# Altium schematic symbol library yu0316-NSC_LDO.SchLib: 2590 symbols (part 55 of 64)
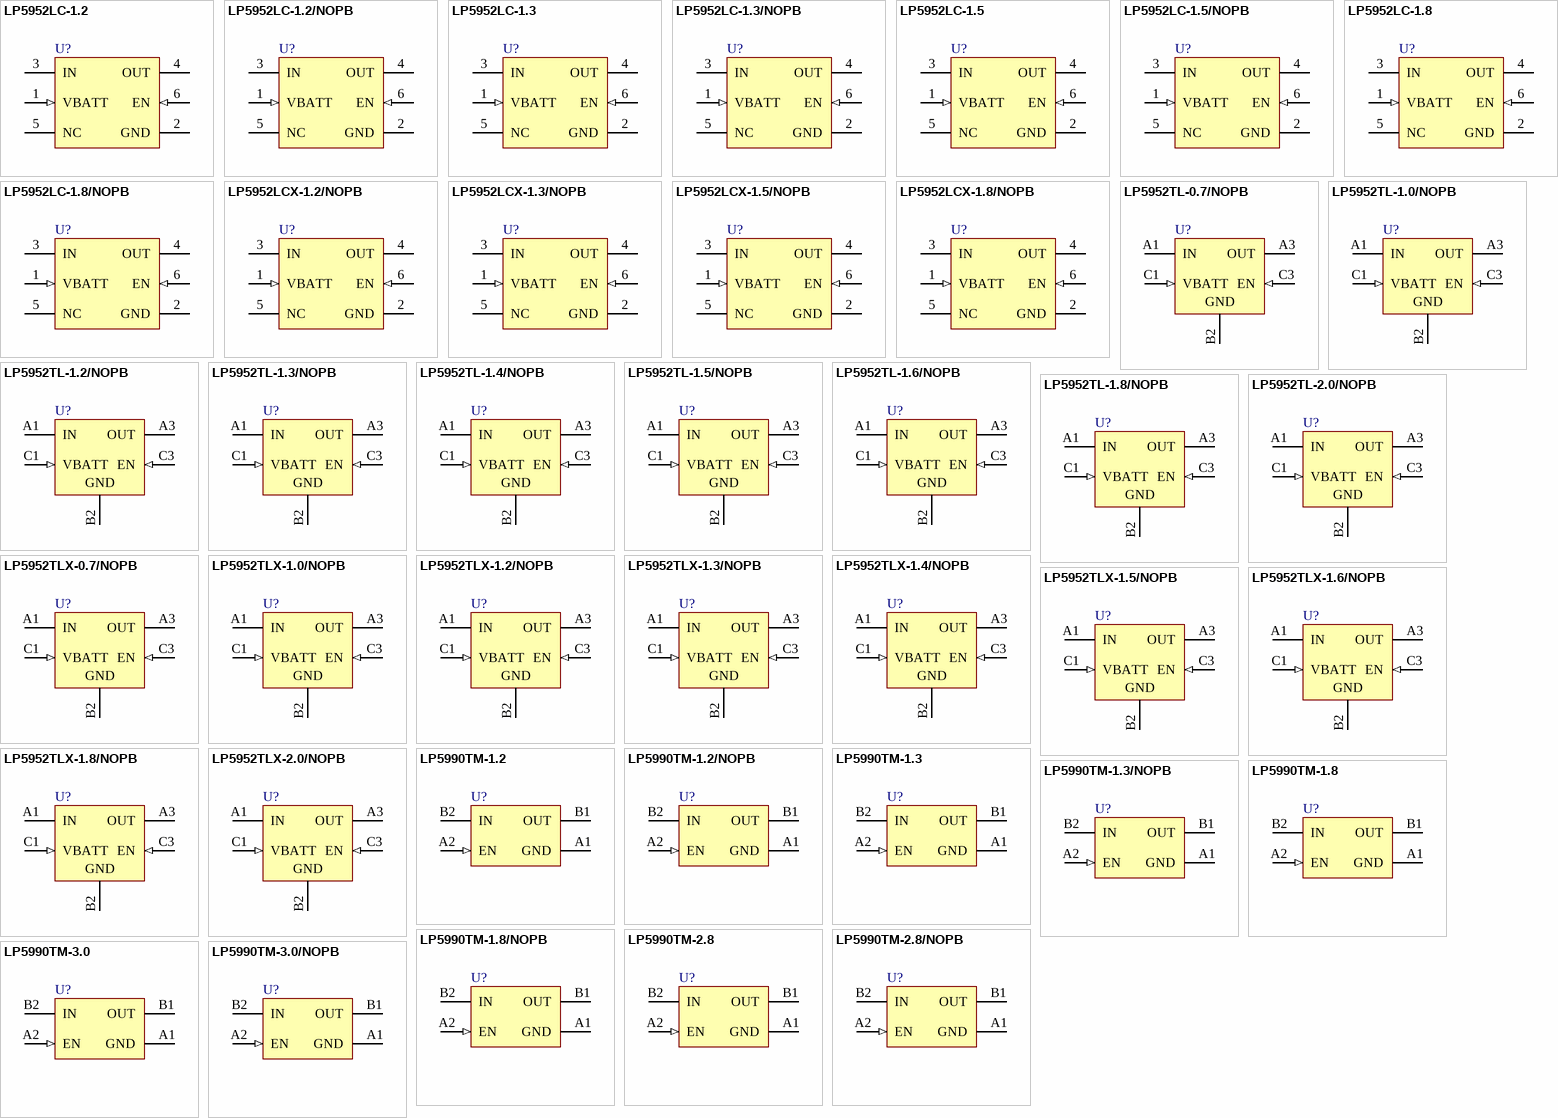
[diagram p119: symbols LP5952LC-1.2 to LP5990TM-3.0/NOPB]

## LP5990TM-2.8/NOPB
designator U?
Micropower 200mA Low Dropout Voltage Regulator, 4-pin Micro SMD, Pb-Free; PartNumber: LP5990TM-2.8/NOPB; Manufacturer: National Semiconductor; PackageTopMarking: X*I; PowerWise: N; CompType: LDO IC; Published: 1-Mar-2010; DatasheetVersion: Dec-2007; PackageVersion: revA, 2007; PackageReference: TMD04CEA; Publisher: Altium Limited; PackageDescription: Thin Micro SMD, 4 Bump, 0.4mm Pitch; Supplier 1: Digi-Key; Supplier Part Number 1: LP5990TM-2.8TR-ND; Supplier 2: Digi-Key; Supplier Part Number 2: LP5990TM-2.8CT-ND; Supplier 3: Digi-Key; Supplier Part Number 3: LP5990TM-2.8DKR-ND; RoHS: Y; PinCount: 4; ComponentLink1Description: LP5990 Datasheet; ComponentLink1URL: http://www.national.com/ds/LP/LP5990.pdf; ComponentLink2Description: LP5990 Web Page; ComponentLink2URL: http://www.national.com/pf/LP/LP5990.html; ComponentLink3Description: TMD04CEA Package Page; ComponentLink3URL: http://www.national.com/packaging/folders/tmd04cea.html
footprint TMD04CEA (Micro SMD, 4-Leads, Body 0.92x0.87mm, Pitch 0.4mm, NSC Recommended)
pins: A1 GND (power), A2 EN (in), B1 OUT (power), B2 IN (power)

## LP5990TM-3.0
designator U?
Micropower 200mA Low Dropout Voltage Regulator, 4-pin Micro SMD; PartNumber: LP5990TM-3.0; Manufacturer: National Semiconductor; PackageTopMarking: X*I; PowerWise: N; CompType: LDO IC; Published: 4-May-2009; DatasheetVersion: Dec-2007; PackageVersion: revA, 2007; PackageReference: TMD04CEA; Publisher: Altium Limited; PackageDescription: Thin Micro SMD, 4 Bump, 0.4mm Pitch; RoHS: Y; PinCount: 4; ComponentLink1Description: LP5990 Datasheet; ComponentLink1URL: http://www.national.com/ds/LP/LP5990.pdf; ComponentLink2Description: LP5990 Web Page; ComponentLink2URL: http://www.national.com/mpf/LP/LP5990.html; ComponentLink3Description: TMD04CEA Package Page; ComponentLink3URL: http://www.national.com/packaging/folders/tmd04cea.html
footprint TMD04CEA (Micro SMD, 4-Leads, Body 0.92x0.87mm, Pitch 0.4mm, NSC Recommended)
pins: A1 GND (power), A2 EN (in), B1 OUT (power), B2 IN (power)

## LP5990TM-3.0/NOPB
designator U?
Micropower 200mA Low Dropout Voltage Regulator, 4-pin Micro SMD, Pb-Free; PartNumber: LP5990TM-3.0/NOPB; Manufacturer: National Semiconductor; PackageTopMarking: X*I; PowerWise: N; CompType: LDO IC; Published: 1-Mar-2010; DatasheetVersion: Dec-2007; PackageVersion: revA, 2007; PackageReference: TMD04CEA; Publisher: Altium Limited; PackageDescription: Thin Micro SMD, 4 Bump, 0.4mm Pitch; Supplier 1: Digi-Key; Supplier Part Number 1: LP5990TM-3.0TR-ND; Supplier 2: Digi-Key; Supplier Part Number 2: LP5990TM-3.0CT-ND; Supplier 3: Digi-Key; Supplier Part Number 3: LP5990TM-3.0DKR-ND; RoHS: Y; PinCount: 4; ComponentLink1Description: LP5990 Datasheet; ComponentLink1URL: http://www.national.com/ds/LP/LP5990.pdf; ComponentLink2Description: LP5990 Web Page; ComponentLink2URL: http://www.national.com/pf/LP/LP5990.html; ComponentLink3Description: TMD04CEA Package Page; ComponentLink3URL: http://www.national.com/packaging/folders/tmd04cea.html
footprint TMD04CEA (Micro SMD, 4-Leads, Body 0.92x0.87mm, Pitch 0.4mm, NSC Recommended)
pins: A1 GND (power), A2 EN (in), B1 OUT (power), B2 IN (power)

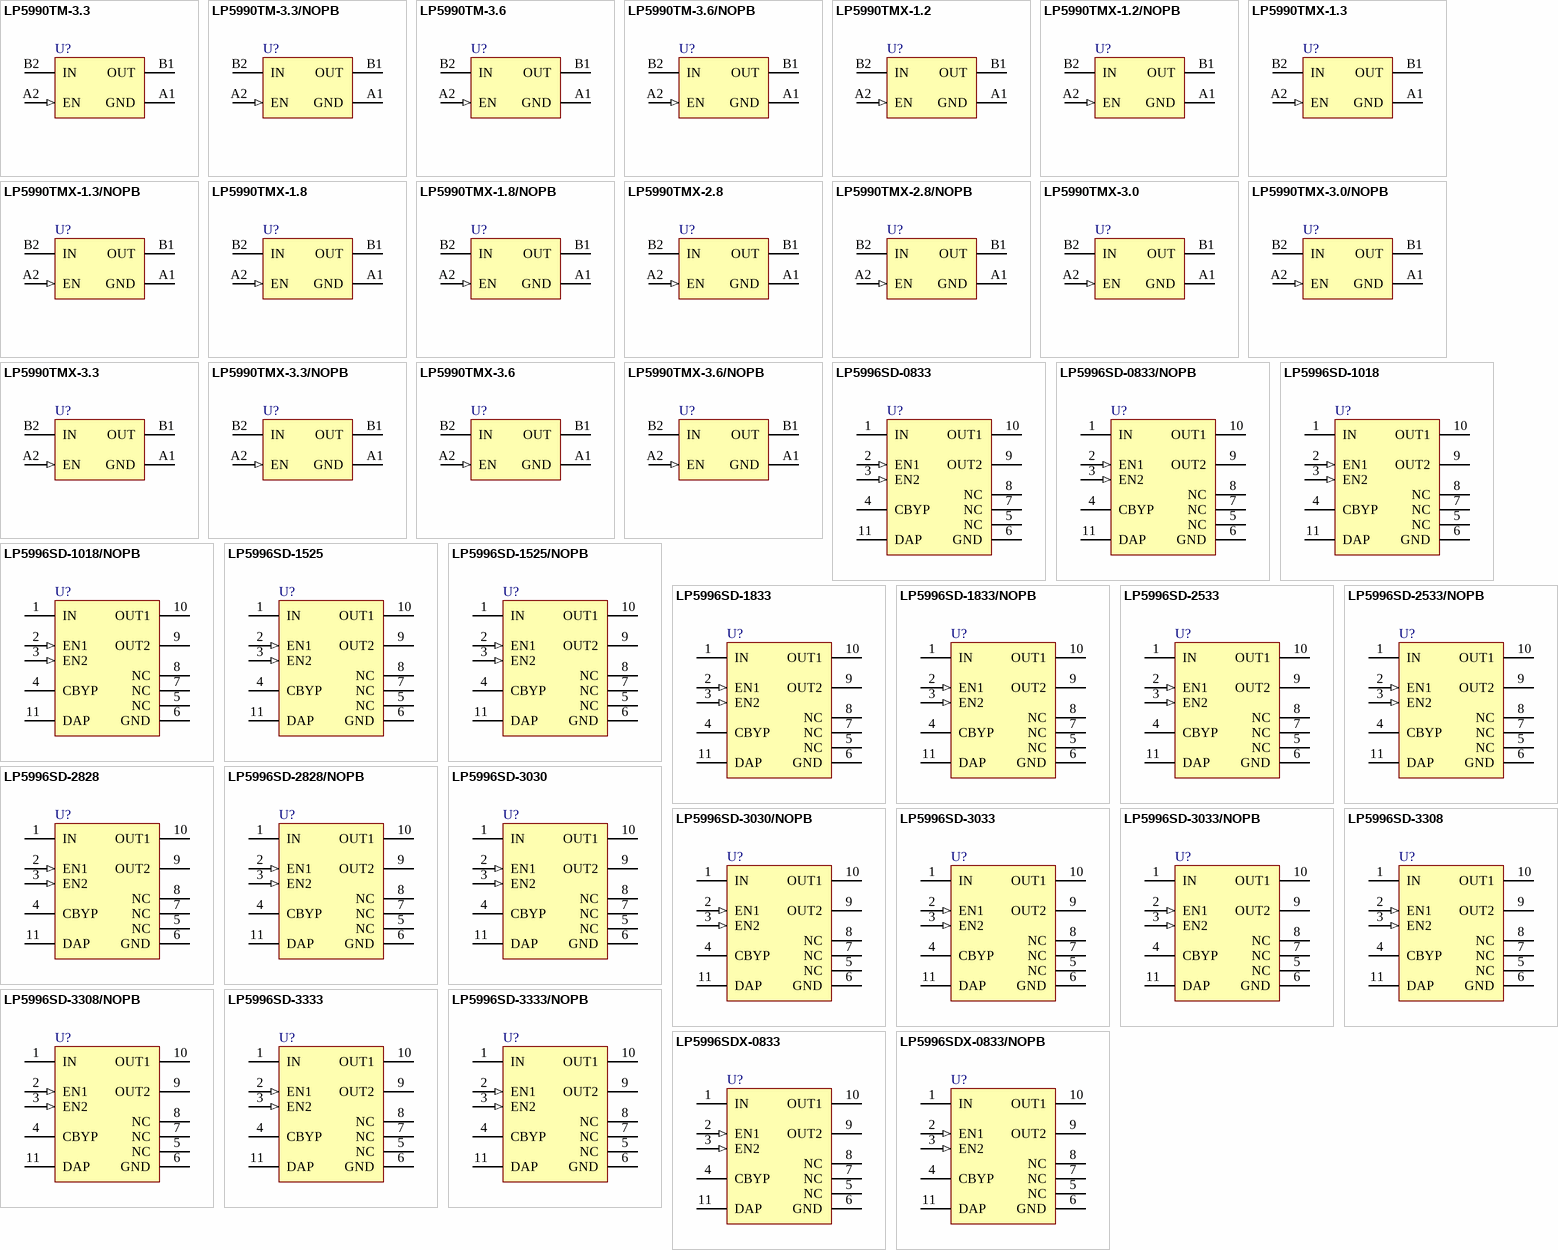
[diagram p56: symbols LP5990TM-3.3 to LP5996SDX-0833/NOPB]

## LP5990TM-3.3
designator U?
Micropower 200mA Low Dropout Voltage Regulator, 4-pin Micro SMD; PartNumber: LP5990TM-3.3; Manufacturer: National Semiconductor; PackageTopMarking: X*I; PowerWise: N; CompType: LDO IC; Published: 4-May-2009; DatasheetVersion: Dec-2007; PackageVersion: revA, 2007; PackageReference: TMD04CEA; Publisher: Altium Limited; PackageDescription: Thin Micro SMD, 4 Bump, 0.4mm Pitch; RoHS: Y; PinCount: 4; ComponentLink1Description: LP5990 Datasheet; ComponentLink1URL: http://www.national.com/ds/LP/LP5990.pdf; ComponentLink2Description: LP5990 Web Page; ComponentLink2URL: http://www.national.com/mpf/LP/LP5990.html; ComponentLink3Description: TMD04CEA Package Page; ComponentLink3URL: http://www.national.com/packaging/folders/tmd04cea.html
footprint TMD04CEA (Micro SMD, 4-Leads, Body 0.92x0.87mm, Pitch 0.4mm, NSC Recommended)
pins: A1 GND (power), A2 EN (in), B1 OUT (power), B2 IN (power)

## LP5990TM-3.3/NOPB
designator U?
Micropower 200mA Low Dropout Voltage Regulator, 4-pin Micro SMD, Pb-Free; PartNumber: LP5990TM-3.3/NOPB; Manufacturer: National Semiconductor; PackageTopMarking: X*I; PowerWise: N; CompType: LDO IC; Published: 1-Mar-2010; DatasheetVersion: Dec-2007; PackageVersion: revA, 2007; PackageReference: TMD04CEA; Publisher: Altium Limited; PackageDescription: Thin Micro SMD, 4 Bump, 0.4mm Pitch; Supplier 1: Digi-Key; Supplier Part Number 1: LP5990TM-3.3TR-ND; Supplier 2: Digi-Key; Supplier Part Number 2: LP5990TM-3.3CT-ND; Supplier 3: Digi-Key; Supplier Part Number 3: LP5990TM-3.3DKR-ND; RoHS: Y; PinCount: 4; ComponentLink1Description: LP5990 Datasheet; ComponentLink1URL: http://www.national.com/ds/LP/LP5990.pdf; ComponentLink2Description: LP5990 Web Page; ComponentLink2URL: http://www.national.com/pf/LP/LP5990.html; ComponentLink3Description: TMD04CEA Package Page; ComponentLink3URL: http://www.national.com/packaging/folders/tmd04cea.html
footprint TMD04CEA (Micro SMD, 4-Leads, Body 0.92x0.87mm, Pitch 0.4mm, NSC Recommended)
pins: A1 GND (power), A2 EN (in), B1 OUT (power), B2 IN (power)

## LP5990TM-3.6
designator U?
Micropower 200mA Low Dropout Voltage Regulator, 4-pin Micro SMD; PartNumber: LP5990TM-3.6; Manufacturer: National Semiconductor; PackageTopMarking: X*I; PowerWise: N; CompType: LDO IC; Published: 4-May-2009; DatasheetVersion: Dec-2007; PackageVersion: revA, 2007; PackageReference: TMD04CEA; Publisher: Altium Limited; PackageDescription: Thin Micro SMD, 4 Bump, 0.4mm Pitch; RoHS: Y; PinCount: 4; ComponentLink1Description: LP5990 Datasheet; ComponentLink1URL: http://www.national.com/ds/LP/LP5990.pdf; ComponentLink2Description: LP5990 Web Page; ComponentLink2URL: http://www.national.com/mpf/LP/LP5990.html; ComponentLink3Description: TMD04CEA Package Page; ComponentLink3URL: http://www.national.com/packaging/folders/tmd04cea.html
footprint TMD04CEA (Micro SMD, 4-Leads, Body 0.92x0.87mm, Pitch 0.4mm, NSC Recommended)
pins: A1 GND (power), A2 EN (in), B1 OUT (power), B2 IN (power)

## LP5990TM-3.6/NOPB
designator U?
Micropower 200mA Low Dropout Voltage Regulator, 4-pin Micro SMD, Pb-Free; PartNumber: LP5990TM-3.6/NOPB; Manufacturer: National Semiconductor; PackageTopMarking: X*I; PowerWise: N; CompType: LDO IC; Published: 1-Mar-2010; DatasheetVersion: Dec-2007; PackageVersion: revA, 2007; PackageReference: TMD04CEA; Publisher: Altium Limited; PackageDescription: Thin Micro SMD, 4 Bump, 0.4mm Pitch; Supplier 1: Digi-Key; Supplier Part Number 1: LP5990TM-3.6/NOPBTR-ND; Supplier 2: Digi-Key; Supplier Part Number 2: LP5990TM-3.6/NOPBCT-ND; Supplier 3: Digi-Key; Supplier Part Number 3: LP5990TM-3.6/NOPBDKR-ND; RoHS: Y; PinCount: 4; ComponentLink1Description: LP5990 Datasheet; ComponentLink1URL: http://www.national.com/ds/LP/LP5990.pdf; ComponentLink2Description: LP5990 Web Page; ComponentLink2URL: http://www.national.com/pf/LP/LP5990.html; ComponentLink3Description: TMD04CEA Package Page; ComponentLink3URL: http://www.national.com/packaging/folders/tmd04cea.html
footprint TMD04CEA (Micro SMD, 4-Leads, Body 0.92x0.87mm, Pitch 0.4mm, NSC Recommended)
pins: A1 GND (power), A2 EN (in), B1 OUT (power), B2 IN (power)

## LP5990TMX-1.2
designator U?
Micropower 200mA Low Dropout Voltage Regulator, 4-pin Micro SMD; PartNumber: LP5990TMX-1.2; Manufacturer: National Semiconductor; PackageTopMarking: X*I; PowerWise: N; CompType: LDO IC; Published: 4-May-2009; DatasheetVersion: Dec-2007; PackageVersion: revA, 2007; PackageReference: TMD04CEA; Publisher: Altium Limited; PackageDescription: Thin Micro SMD, 4 Bump, 0.4mm Pitch; RoHS: Y; PinCount: 4; ComponentLink1Description: LP5990 Datasheet; ComponentLink1URL: http://www.national.com/ds/LP/LP5990.pdf; ComponentLink2Description: LP5990 Web Page; ComponentLink2URL: http://www.national.com/mpf/LP/LP5990.html; ComponentLink3Description: TMD04CEA Package Page; ComponentLink3URL: http://www.national.com/packaging/folders/tmd04cea.html
footprint TMD04CEA (Micro SMD, 4-Leads, Body 0.92x0.87mm, Pitch 0.4mm, NSC Recommended)
pins: A1 GND (power), A2 EN (in), B1 OUT (power), B2 IN (power)

## LP5990TMX-1.2/NOPB
designator U?
Micropower 200mA Low Dropout Voltage Regulator, 4-pin Micro SMD, Pb-Free; PartNumber: LP5990TMX-1.2/NOPB; Manufacturer: National Semiconductor; PackageTopMarking: X*I; PowerWise: N; CompType: LDO IC; Published: 1-Mar-2010; DatasheetVersion: Dec-2007; PackageVersion: revA, 2007; PackageReference: TMD04CEA; Publisher: Altium Limited; PackageDescription: Thin Micro SMD, 4 Bump, 0.4mm Pitch; Supplier 1: Digi-Key; Supplier Part Number 1: LP5990TMX-1.2-ND; RoHS: Y; PinCount: 4; ComponentLink1Description: LP5990 Datasheet; ComponentLink1URL: http://www.national.com/ds/LP/LP5990.pdf; ComponentLink2Description: LP5990 Web Page; ComponentLink2URL: http://www.national.com/pf/LP/LP5990.html; ComponentLink3Description: TMD04CEA Package Page; ComponentLink3URL: http://www.national.com/packaging/folders/tmd04cea.html
footprint TMD04CEA (Micro SMD, 4-Leads, Body 0.92x0.87mm, Pitch 0.4mm, NSC Recommended)
pins: A1 GND (power), A2 EN (in), B1 OUT (power), B2 IN (power)

## LP5990TMX-1.3
designator U?
Micropower 200mA Low Dropout Voltage Regulator, 4-pin Micro SMD; PartNumber: LP5990TMX-1.3; Manufacturer: National Semiconductor; PackageTopMarking: X*I; PowerWise: N; CompType: LDO IC; Published: 4-May-2009; DatasheetVersion: Dec-2007; PackageVersion: revA, 2007; PackageReference: TMD04CEA; Publisher: Altium Limited; PackageDescription: Thin Micro SMD, 4 Bump, 0.4mm Pitch; RoHS: Y; PinCount: 4; ComponentLink1Description: LP5990 Datasheet; ComponentLink1URL: http://www.national.com/ds/LP/LP5990.pdf; ComponentLink2Description: LP5990 Web Page; ComponentLink2URL: http://www.national.com/mpf/LP/LP5990.html; ComponentLink3Description: TMD04CEA Package Page; ComponentLink3URL: http://www.national.com/packaging/folders/tmd04cea.html
footprint TMD04CEA (Micro SMD, 4-Leads, Body 0.92x0.87mm, Pitch 0.4mm, NSC Recommended)
pins: A1 GND (power), A2 EN (in), B1 OUT (power), B2 IN (power)

## LP5990TMX-1.3/NOPB
designator U?
Micropower 200mA Low Dropout Voltage Regulator, 4-pin Micro SMD, Pb-Free; PartNumber: LP5990TMX-1.3/NOPB; Manufacturer: National Semiconductor; PackageTopMarking: X*I; PowerWise: N; CompType: LDO IC; Published: 1-Mar-2010; DatasheetVersion: Dec-2007; PackageVersion: revA, 2007; PackageReference: TMD04CEA; Publisher: Altium Limited; PackageDescription: Thin Micro SMD, 4 Bump, 0.4mm Pitch; Supplier 1: Digi-Key; Supplier Part Number 1: LP5990TMX-1.3/NOPB-ND; RoHS: Y; PinCount: 4; ComponentLink1Description: LP5990 Datasheet; ComponentLink1URL: http://www.national.com/ds/LP/LP5990.pdf; ComponentLink2Description: LP5990 Web Page; ComponentLink2URL: http://www.national.com/pf/LP/LP5990.html; ComponentLink3Description: TMD04CEA Package Page; ComponentLink3URL: http://www.national.com/packaging/folders/tmd04cea.html
footprint TMD04CEA (Micro SMD, 4-Leads, Body 0.92x0.87mm, Pitch 0.4mm, NSC Recommended)
pins: A1 GND (power), A2 EN (in), B1 OUT (power), B2 IN (power)

## LP5990TMX-1.8
designator U?
Micropower 200mA Low Dropout Voltage Regulator, 4-pin Micro SMD; PartNumber: LP5990TMX-1.8; Manufacturer: National Semiconductor; PackageTopMarking: X*I; PowerWise: N; CompType: LDO IC; Published: 4-May-2009; DatasheetVersion: Dec-2007; PackageVersion: revA, 2007; PackageReference: TMD04CEA; Publisher: Altium Limited; PackageDescription: Thin Micro SMD, 4 Bump, 0.4mm Pitch; RoHS: Y; PinCount: 4; ComponentLink1Description: LP5990 Datasheet; ComponentLink1URL: http://www.national.com/ds/LP/LP5990.pdf; ComponentLink2Description: LP5990 Web Page; ComponentLink2URL: http://www.national.com/mpf/LP/LP5990.html; ComponentLink3Description: TMD04CEA Package Page; ComponentLink3URL: http://www.national.com/packaging/folders/tmd04cea.html
footprint TMD04CEA (Micro SMD, 4-Leads, Body 0.92x0.87mm, Pitch 0.4mm, NSC Recommended)
pins: A1 GND (power), A2 EN (in), B1 OUT (power), B2 IN (power)

## LP5990TMX-1.8/NOPB
designator U?
Micropower 200mA Low Dropout Voltage Regulator, 4-pin Micro SMD, Pb-Free; PartNumber: LP5990TMX-1.8/NOPB; Manufacturer: National Semiconductor; PackageTopMarking: X*I; PowerWise: N; CompType: LDO IC; Published: 1-Mar-2010; DatasheetVersion: Dec-2007; PackageVersion: revA, 2007; PackageReference: TMD04CEA; Publisher: Altium Limited; PackageDescription: Thin Micro SMD, 4 Bump, 0.4mm Pitch; Supplier 1: Digi-Key; Supplier Part Number 1: LP5990TMX-1.8-ND; RoHS: Y; PinCount: 4; ComponentLink1Description: LP5990 Datasheet; ComponentLink1URL: http://www.national.com/ds/LP/LP5990.pdf; ComponentLink2Description: LP5990 Web Page; ComponentLink2URL: http://www.national.com/pf/LP/LP5990.html; ComponentLink3Description: TMD04CEA Package Page; ComponentLink3URL: http://www.national.com/packaging/folders/tmd04cea.html
footprint TMD04CEA (Micro SMD, 4-Leads, Body 0.92x0.87mm, Pitch 0.4mm, NSC Recommended)
pins: A1 GND (power), A2 EN (in), B1 OUT (power), B2 IN (power)

## LP5990TMX-2.8
designator U?
Micropower 200mA Low Dropout Voltage Regulator, 4-pin Micro SMD; PartNumber: LP5990TMX-2.8; Manufacturer: National Semiconductor; PackageTopMarking: X*I; PowerWise: N; CompType: LDO IC; Published: 4-May-2009; DatasheetVersion: Dec-2007; PackageVersion: revA, 2007; PackageReference: TMD04CEA; Publisher: Altium Limited; PackageDescription: Thin Micro SMD, 4 Bump, 0.4mm Pitch; RoHS: Y; PinCount: 4; ComponentLink1Description: LP5990 Datasheet; ComponentLink1URL: http://www.national.com/ds/LP/LP5990.pdf; ComponentLink2Description: LP5990 Web Page; ComponentLink2URL: http://www.national.com/mpf/LP/LP5990.html; ComponentLink3Description: TMD04CEA Package Page; ComponentLink3URL: http://www.national.com/packaging/folders/tmd04cea.html
footprint TMD04CEA (Micro SMD, 4-Leads, Body 0.92x0.87mm, Pitch 0.4mm, NSC Recommended)
pins: A1 GND (power), A2 EN (in), B1 OUT (power), B2 IN (power)

## LP5990TMX-2.8/NOPB
designator U?
Micropower 200mA Low Dropout Voltage Regulator, 4-pin Micro SMD, Pb-Free; PartNumber: LP5990TMX-2.8/NOPB; Manufacturer: National Semiconductor; PackageTopMarking: X*I; PowerWise: N; CompType: LDO IC; Published: 1-Mar-2010; DatasheetVersion: Dec-2007; PackageVersion: revA, 2007; PackageReference: TMD04CEA; Publisher: Altium Limited; PackageDescription: Thin Micro SMD, 4 Bump, 0.4mm Pitch; Supplier 1: Digi-Key; Supplier Part Number 1: LP5990TMX-2.8-ND; RoHS: Y; PinCount: 4; ComponentLink1Description: LP5990 Datasheet; ComponentLink1URL: http://www.national.com/ds/LP/LP5990.pdf; ComponentLink2Description: LP5990 Web Page; ComponentLink2URL: http://www.national.com/pf/LP/LP5990.html; ComponentLink3Description: TMD04CEA Package Page; ComponentLink3URL: http://www.national.com/packaging/folders/tmd04cea.html
footprint TMD04CEA (Micro SMD, 4-Leads, Body 0.92x0.87mm, Pitch 0.4mm, NSC Recommended)
pins: A1 GND (power), A2 EN (in), B1 OUT (power), B2 IN (power)

## LP5990TMX-3.0
designator U?
Micropower 200mA Low Dropout Voltage Regulator, 4-pin Micro SMD; PartNumber: LP5990TMX-3.0; Manufacturer: National Semiconductor; PackageTopMarking: X*I; PowerWise: N; CompType: LDO IC; Published: 4-May-2009; DatasheetVersion: Dec-2007; PackageVersion: revA, 2007; PackageReference: TMD04CEA; Publisher: Altium Limited; PackageDescription: Thin Micro SMD, 4 Bump, 0.4mm Pitch; RoHS: Y; PinCount: 4; ComponentLink1Description: LP5990 Datasheet; ComponentLink1URL: http://www.national.com/ds/LP/LP5990.pdf; ComponentLink2Description: LP5990 Web Page; ComponentLink2URL: http://www.national.com/mpf/LP/LP5990.html; ComponentLink3Description: TMD04CEA Package Page; ComponentLink3URL: http://www.national.com/packaging/folders/tmd04cea.html
footprint TMD04CEA (Micro SMD, 4-Leads, Body 0.92x0.87mm, Pitch 0.4mm, NSC Recommended)
pins: A1 GND (power), A2 EN (in), B1 OUT (power), B2 IN (power)

## LP5990TMX-3.0/NOPB
designator U?
Micropower 200mA Low Dropout Voltage Regulator, 4-pin Micro SMD, Pb-Free; PartNumber: LP5990TMX-3.0/NOPB; Manufacturer: National Semiconductor; PackageTopMarking: X*I; PowerWise: N; CompType: LDO IC; Published: 1-Mar-2010; DatasheetVersion: Dec-2007; PackageVersion: revA, 2007; PackageReference: TMD04CEA; Publisher: Altium Limited; PackageDescription: Thin Micro SMD, 4 Bump, 0.4mm Pitch; Supplier 1: Digi-Key; Supplier Part Number 1: LP5990TMX-3.0-ND; RoHS: Y; PinCount: 4; ComponentLink1Description: LP5990 Datasheet; ComponentLink1URL: http://www.national.com/ds/LP/LP5990.pdf; ComponentLink2Description: LP5990 Web Page; ComponentLink2URL: http://www.national.com/pf/LP/LP5990.html; ComponentLink3Description: TMD04CEA Package Page; ComponentLink3URL: http://www.national.com/packaging/folders/tmd04cea.html
footprint TMD04CEA (Micro SMD, 4-Leads, Body 0.92x0.87mm, Pitch 0.4mm, NSC Recommended)
pins: A1 GND (power), A2 EN (in), B1 OUT (power), B2 IN (power)

## LP5990TMX-3.3
designator U?
Micropower 200mA Low Dropout Voltage Regulator, 4-pin Micro SMD; PartNumber: LP5990TMX-3.3; Manufacturer: National Semiconductor; PackageTopMarking: X*I; PowerWise: N; CompType: LDO IC; Published: 4-May-2009; DatasheetVersion: Dec-2007; PackageVersion: revA, 2007; PackageReference: TMD04CEA; Publisher: Altium Limited; PackageDescription: Thin Micro SMD, 4 Bump, 0.4mm Pitch; RoHS: Y; PinCount: 4; ComponentLink1Description: LP5990 Datasheet; ComponentLink1URL: http://www.national.com/ds/LP/LP5990.pdf; ComponentLink2Description: LP5990 Web Page; ComponentLink2URL: http://www.national.com/mpf/LP/LP5990.html; ComponentLink3Description: TMD04CEA Package Page; ComponentLink3URL: http://www.national.com/packaging/folders/tmd04cea.html
footprint TMD04CEA (Micro SMD, 4-Leads, Body 0.92x0.87mm, Pitch 0.4mm, NSC Recommended)
pins: A1 GND (power), A2 EN (in), B1 OUT (power), B2 IN (power)

## LP5990TMX-3.3/NOPB
designator U?
Micropower 200mA Low Dropout Voltage Regulator, 4-pin Micro SMD, Pb-Free; PartNumber: LP5990TMX-3.3/NOPB; Manufacturer: National Semiconductor; PackageTopMarking: X*I; PowerWise: N; CompType: LDO IC; Published: 1-Mar-2010; DatasheetVersion: Dec-2007; PackageVersion: revA, 2007; PackageReference: TMD04CEA; Publisher: Altium Limited; PackageDescription: Thin Micro SMD, 4 Bump, 0.4mm Pitch; Supplier 1: Digi-Key; Supplier Part Number 1: LP5990TMX-3.3-ND; RoHS: Y; PinCount: 4; ComponentLink1Description: LP5990 Datasheet; ComponentLink1URL: http://www.national.com/ds/LP/LP5990.pdf; ComponentLink2Description: LP5990 Web Page; ComponentLink2URL: http://www.national.com/pf/LP/LP5990.html; ComponentLink3Description: TMD04CEA Package Page; ComponentLink3URL: http://www.national.com/packaging/folders/tmd04cea.html
footprint TMD04CEA (Micro SMD, 4-Leads, Body 0.92x0.87mm, Pitch 0.4mm, NSC Recommended)
pins: A1 GND (power), A2 EN (in), B1 OUT (power), B2 IN (power)

## LP5990TMX-3.6
designator U?
Micropower 200mA Low Dropout Voltage Regulator, 4-pin Micro SMD; PartNumber: LP5990TMX-3.6; Manufacturer: National Semiconductor; PackageTopMarking: X*I; PowerWise: N; CompType: LDO IC; Published: 4-May-2009; DatasheetVersion: Dec-2007; PackageVersion: revA, 2007; PackageReference: TMD04CEA; Publisher: Altium Limited; PackageDescription: Thin Micro SMD, 4 Bump, 0.4mm Pitch; RoHS: Y; PinCount: 4; ComponentLink1Description: LP5990 Datasheet; ComponentLink1URL: http://www.national.com/ds/LP/LP5990.pdf; ComponentLink2Description: LP5990 Web Page; ComponentLink2URL: http://www.national.com/mpf/LP/LP5990.html; ComponentLink3Description: TMD04CEA Package Page; ComponentLink3URL: http://www.national.com/packaging/folders/tmd04cea.html
footprint TMD04CEA (Micro SMD, 4-Leads, Body 0.92x0.87mm, Pitch 0.4mm, NSC Recommended)
pins: A1 GND (power), A2 EN (in), B1 OUT (power), B2 IN (power)

## LP5990TMX-3.6/NOPB
designator U?
Micropower 200mA Low Dropout Voltage Regulator, 4-pin Micro SMD, Pb-Free; PartNumber: LP5990TMX-3.6/NOPB; Manufacturer: National Semiconductor; PackageTopMarking: X*I; PowerWise: N; CompType: LDO IC; Published: 1-Mar-2010; DatasheetVersion: Dec-2007; PackageVersion: revA, 2007; PackageReference: TMD04CEA; Publisher: Altium Limited; PackageDescription: Thin Micro SMD, 4 Bump, 0.4mm Pitch; Supplier 1: Digi-Key; Supplier Part Number 1: LP5990TMX-3.6-ND; RoHS: Y; PinCount: 4; ComponentLink1Description: LP5990 Datasheet; ComponentLink1URL: http://www.national.com/ds/LP/LP5990.pdf; ComponentLink2Description: LP5990 Web Page; ComponentLink2URL: http://www.national.com/pf/LP/LP5990.html; ComponentLink3Description: TMD04CEA Package Page; ComponentLink3URL: http://www.national.com/packaging/folders/tmd04cea.html
footprint TMD04CEA (Micro SMD, 4-Leads, Body 0.92x0.87mm, Pitch 0.4mm, NSC Recommended)
pins: A1 GND (power), A2 EN (in), B1 OUT (power), B2 IN (power)

## LP5996SD-0833
designator U?
Dual Linear Regulator with 300mA and 150mA Outputs, 10-pin LLP; PartNumber: LP5996SD-0833; Manufacturer: National Semiconductor; PackageTopMarking: ZXYTT*L176B; PowerWise: N; CompType: LDO IC; Published: 4-Dec-2008; DatasheetVersion: Jan-2008; PackageVersion: revA, Oct-2003; PackageReference: SDA10A; Publisher: Altium Limited; PackageDescription: LLP, Plastic, Dual, 3 x 3 x 0.8mm Body, 10 Lead, 0.5mm Pitch, No Pullback; Supplier 1: Farnell; Supplier Part Number 1: 1312659; RoHS: N; PinCount: 10; ComponentLink1Description: LP5996 Datasheet; ComponentLink1URL: http://www.national.com/ds/LP/LP5996.pdf; ComponentLink2Description: LP5996 Web Page; ComponentLink2URL: http://www.national.com/pf/LP/LP5996.html; ComponentLink3Description: SDA10A Package Page; ComponentLink3URL: http://www.national.com/packaging/folders/sda10a.html
footprint SDA10A (SON, 10-Leads, Body 3x3 mm, Pitch 0.5mm, NSC Recommended)
pins: 1 IN (power), 2 EN1 (in), 3 EN2 (in), 4 CBYP, 5 NC, 6 GND (power), 7 NC, 8 NC, 9 OUT2 (power), 10 OUT1 (power), 11 DAP (power)

## LP5996SD-0833/NOPB
designator U?
Dual Linear Regulator with 300mA and 150mA Outputs, 10-pin LLP, Pb-Free; PartNumber: LP5996SD-0833/NOPB; Manufacturer: National Semiconductor; PackageTopMarking: ZXYTT*L176B; PowerWise: N; CompType: LDO IC; Published: 1-Mar-2010; DatasheetVersion: Jan-2008; PackageVersion: revA, Oct-2003; PackageReference: SDA10A; Publisher: Altium Limited; PackageDescription: LLP, Plastic, Dual, 3 x 3 x 0.8mm Body, 10 Lead, 0.5mm Pitch, No Pullback; Supplier 1: Digi-Key; Supplier Part Number 1: LP5996SD-0833TR-ND; Supplier 2: Digi-Key; Supplier Part Number 2: LP5996SD-0833CT-ND; RoHS: Y; PinCount: 10; ComponentLink1Description: LP5996 Datasheet; ComponentLink1URL: http://www.national.com/ds/LP/LP5996.pdf; ComponentLink2Description: LP5996 Web Page; ComponentLink2URL: http://www.national.com/pf/LP/LP5996.html; ComponentLink3Description: SDA10A Package Page; ComponentLink3URL: http://www.national.com/packaging/folders/sda10a.html
footprint SDA10A (SON, 10-Leads, Body 3x3 mm, Pitch 0.5mm, NSC Recommended)
pins: 1 IN (power), 2 EN1 (in), 3 EN2 (in), 4 CBYP, 5 NC, 6 GND (power), 7 NC, 8 NC, 9 OUT2 (power), 10 OUT1 (power), 11 DAP (power)

## LP5996SD-1018
designator U?
Dual Linear Regulator with 300mA and 150mA Outputs, 10-pin LLP; PartNumber: LP5996SD-1018; Manufacturer: National Semiconductor; PackageTopMarking: ZXYTT*L224B; PowerWise: N; CompType: LDO IC; Published: 4-Dec-2008; DatasheetVersion: Jan-2008; PackageVersion: revA, Oct-2003; PackageReference: SDA10A; Publisher: Altium Limited; PackageDescription: LLP, Plastic, Dual, 3 x 3 x 0.8mm Body, 10 Lead, 0.5mm Pitch, No Pullback; RoHS: Y; PinCount: 10; ComponentLink1Description: LP5996 Datasheet; ComponentLink1URL: http://www.national.com/ds/LP/LP5996.pdf; ComponentLink2Description: LP5996 Web Page; ComponentLink2URL: http://www.national.com/pf/LP/LP5996.html; ComponentLink3Description: SDA10A Package Page; ComponentLink3URL: http://www.national.com/packaging/folders/sda10a.html
footprint SDA10A (SON, 10-Leads, Body 3x3 mm, Pitch 0.5mm, NSC Recommended)
pins: 1 IN (power), 2 EN1 (in), 3 EN2 (in), 4 CBYP, 5 NC, 6 GND (power), 7 NC, 8 NC, 9 OUT2 (power), 10 OUT1 (power), 11 DAP (power)

## LP5996SD-1018/NOPB
designator U?
Dual Linear Regulator with 300mA and 150mA Outputs, 10-pin LLP, Pb-Free; PartNumber: LP5996SD-1018/NOPB; Manufacturer: National Semiconductor; PackageTopMarking: ZXYTT*L224B; PowerWise: N; CompType: LDO IC; Published: 1-Mar-2010; DatasheetVersion: Jan-2008; PackageVersion: revA, Oct-2003; PackageReference: SDA10A; Publisher: Altium Limited; PackageDescription: LLP, Plastic, Dual, 3 x 3 x 0.8mm Body, 10 Lead, 0.5mm Pitch, No Pullback; Supplier 1: Digi-Key; Supplier Part Number 1: LP5996SD-1018TR-ND; Supplier 2: Digi-Key; Supplier Part Number 2: LP5996SD-1018CT-ND; Supplier 3: Digi-Key; Supplier Part Number 3: LP5996SD-1018DKR-ND; RoHS: Y; PinCount: 10; ComponentLink1Description: LP5996 Datasheet; ComponentLink1URL: http://www.national.com/ds/LP/LP5996.pdf; ComponentLink2Description: LP5996 Web Page; ComponentLink2URL: http://www.national.com/pf/LP/LP5996.html; ComponentLink3Description: SDA10A Package Page; ComponentLink3URL: http://www.national.com/packaging/folders/sda10a.html
footprint SDA10A (SON, 10-Leads, Body 3x3 mm, Pitch 0.5mm, NSC Recommended)
pins: 1 IN (power), 2 EN1 (in), 3 EN2 (in), 4 CBYP, 5 NC, 6 GND (power), 7 NC, 8 NC, 9 OUT2 (power), 10 OUT1 (power), 11 DAP (power)

## LP5996SD-1525
designator U?
Dual Linear Regulator with 300mA and 150mA Outputs, 10-pin LLP; PartNumber: LP5996SD-1525; Manufacturer: National Semiconductor; PackageTopMarking: ZXYTT*L177B; PowerWise: N; CompType: LDO IC; Published: 4-Dec-2008; DatasheetVersion: Jan-2008; PackageVersion: revA, Oct-2003; PackageReference: SDA10A; Publisher: Altium Limited; PackageDescription: LLP, Plastic, Dual, 3 x 3 x 0.8mm Body, 10 Lead, 0.5mm Pitch, No Pullback; Supplier 1: Farnell; Supplier Part Number 1: 1312660; RoHS: N; PinCount: 10; ComponentLink1Description: LP5996 Datasheet; ComponentLink1URL: http://www.national.com/ds/LP/LP5996.pdf; ComponentLink2Description: LP5996 Web Page; ComponentLink2URL: http://www.national.com/pf/LP/LP5996.html; ComponentLink3Description: SDA10A Package Page; ComponentLink3URL: http://www.national.com/packaging/folders/sda10a.html
footprint SDA10A (SON, 10-Leads, Body 3x3 mm, Pitch 0.5mm, NSC Recommended)
pins: 1 IN (power), 2 EN1 (in), 3 EN2 (in), 4 CBYP, 5 NC, 6 GND (power), 7 NC, 8 NC, 9 OUT2 (power), 10 OUT1 (power), 11 DAP (power)

## LP5996SD-1525/NOPB
designator U?
Dual Linear Regulator with 300mA and 150mA Outputs, 10-pin LLP, Pb-Free; PartNumber: LP5996SD-1525/NOPB; Manufacturer: National Semiconductor; PackageTopMarking: ZXYTT*L177B; PowerWise: N; CompType: LDO IC; Published: 1-Mar-2010; DatasheetVersion: Jan-2008; PackageVersion: revA, Oct-2003; PackageReference: SDA10A; Publisher: Altium Limited; PackageDescription: LLP, Plastic, Dual, 3 x 3 x 0.8mm Body, 10 Lead, 0.5mm Pitch, No Pullback; Supplier 1: Digi-Key; Supplier Part Number 1: LP5996SD-1525TR-ND; Supplier 2: Digi-Key; Supplier Part Number 2: LP5996SD-1525CT-ND; RoHS: Y; PinCount: 10; ComponentLink1Description: LP5996 Datasheet; ComponentLink1URL: http://www.national.com/ds/LP/LP5996.pdf; ComponentLink2Description: LP5996 Web Page; ComponentLink2URL: http://www.national.com/pf/LP/LP5996.html; ComponentLink3Description: SDA10A Package Page; ComponentLink3URL: http://www.national.com/packaging/folders/sda10a.html
footprint SDA10A (SON, 10-Leads, Body 3x3 mm, Pitch 0.5mm, NSC Recommended)
pins: 1 IN (power), 2 EN1 (in), 3 EN2 (in), 4 CBYP, 5 NC, 6 GND (power), 7 NC, 8 NC, 9 OUT2 (power), 10 OUT1 (power), 11 DAP (power)

## LP5996SD-1833
designator U?
Dual Linear Regulator with 300mA and 150mA Outputs, 10-pin LLP; PartNumber: LP5996SD-1833; Manufacturer: National Semiconductor; PackageTopMarking: ZXYTT*L225B; PowerWise: N; CompType: LDO IC; Published: 4-Dec-2008; DatasheetVersion: Jan-2008; PackageVersion: revA, Oct-2003; PackageReference: SDA10A; Publisher: Altium Limited; PackageDescription: LLP, Plastic, Dual, 3 x 3 x 0.8mm Body, 10 Lead, 0.5mm Pitch, No Pullback; RoHS: Y; PinCount: 10; ComponentLink1Description: LP5996 Datasheet; ComponentLink1URL: http://www.national.com/ds/LP/LP5996.pdf; ComponentLink2Description: LP5996 Web Page; ComponentLink2URL: http://www.national.com/pf/LP/LP5996.html; ComponentLink3Description: SDA10A Package Page; ComponentLink3URL: http://www.national.com/packaging/folders/sda10a.html
footprint SDA10A (SON, 10-Leads, Body 3x3 mm, Pitch 0.5mm, NSC Recommended)
pins: 1 IN (power), 2 EN1 (in), 3 EN2 (in), 4 CBYP, 5 NC, 6 GND (power), 7 NC, 8 NC, 9 OUT2 (power), 10 OUT1 (power), 11 DAP (power)

## LP5996SD-1833/NOPB
designator U?
Dual Linear Regulator with 300mA and 150mA Outputs, 10-pin LLP, Pb-Free; PartNumber: LP5996SD-1833/NOPB; Manufacturer: National Semiconductor; PackageTopMarking: ZXYTT*L225B; PowerWise: N; CompType: LDO IC; Published: 1-Mar-2010; DatasheetVersion: Jan-2008; PackageVersion: revA, Oct-2003; PackageReference: SDA10A; Publisher: Altium Limited; PackageDescription: LLP, Plastic, Dual, 3 x 3 x 0.8mm Body, 10 Lead, 0.5mm Pitch, No Pullback; Supplier 1: Digi-Key; Supplier Part Number 1: LP5996SD-1833TR-ND; Supplier 2: Digi-Key; Supplier Part Number 2: LP5996SD-1833CT-ND; Supplier 3: Digi-Key; Supplier Part Number 3: LP5996SD-1833DKR-ND; RoHS: Y; PinCount: 10; ComponentLink1Description: LP5996 Datasheet; ComponentLink1URL: http://www.national.com/ds/LP/LP5996.pdf; ComponentLink2Description: LP5996 Web Page; ComponentLink2URL: http://www.national.com/pf/LP/LP5996.html; ComponentLink3Description: SDA10A Package Page; ComponentLink3URL: http://www.national.com/packaging/folders/sda10a.html
footprint SDA10A (SON, 10-Leads, Body 3x3 mm, Pitch 0.5mm, NSC Recommended)
pins: 1 IN (power), 2 EN1 (in), 3 EN2 (in), 4 CBYP, 5 NC, 6 GND (power), 7 NC, 8 NC, 9 OUT2 (power), 10 OUT1 (power), 11 DAP (power)

## LP5996SD-2533
designator U?
Dual Linear Regulator with 300mA and 150mA Outputs, 10-pin LLP; PartNumber: LP5996SD-2533; Manufacturer: National Semiconductor; PackageTopMarking: ZXYTT*L226B; PowerWise: N; CompType: LDO IC; Published: 4-Dec-2008; DatasheetVersion: Jan-2008; PackageVersion: revA, Oct-2003; PackageReference: SDA10A; Publisher: Altium Limited; PackageDescription: LLP, Plastic, Dual, 3 x 3 x 0.8mm Body, 10 Lead, 0.5mm Pitch, No Pullback; RoHS: Y; PinCount: 10; ComponentLink1Description: LP5996 Datasheet; ComponentLink1URL: http://www.national.com/ds/LP/LP5996.pdf; ComponentLink2Description: LP5996 Web Page; ComponentLink2URL: http://www.national.com/pf/LP/LP5996.html; ComponentLink3Description: SDA10A Package Page; ComponentLink3URL: http://www.national.com/packaging/folders/sda10a.html
footprint SDA10A (SON, 10-Leads, Body 3x3 mm, Pitch 0.5mm, NSC Recommended)
pins: 1 IN (power), 2 EN1 (in), 3 EN2 (in), 4 CBYP, 5 NC, 6 GND (power), 7 NC, 8 NC, 9 OUT2 (power), 10 OUT1 (power), 11 DAP (power)

## LP5996SD-2533/NOPB
designator U?
Dual Linear Regulator with 300mA and 150mA Outputs, 10-pin LLP, Pb-Free; PartNumber: LP5996SD-2533/NOPB; Manufacturer: National Semiconductor; PackageTopMarking: ZXYTT*L226B; PowerWise: N; CompType: LDO IC; Published: 1-Mar-2010; DatasheetVersion: Jan-2008; PackageVersion: revA, Oct-2003; PackageReference: SDA10A; Publisher: Altium Limited; PackageDescription: LLP, Plastic, Dual, 3 x 3 x 0.8mm Body, 10 Lead, 0.5mm Pitch, No Pullback; Supplier 1: Digi-Key; Supplier Part Number 1: LP5996SD-2533TR-ND; Supplier 2: Digi-Key; Supplier Part Number 2: LP5996SD-2533CT-ND; Supplier 3: Digi-Key; Supplier Part Number 3: LP5996SD-2533DKR-ND; RoHS: Y; PinCount: 10; ComponentLink1Description: LP5996 Datasheet; ComponentLink1URL: http://www.national.com/ds/LP/LP5996.pdf; ComponentLink2Description: LP5996 Web Page; ComponentLink2URL: http://www.national.com/pf/LP/LP5996.html; ComponentLink3Description: SDA10A Package Page; ComponentLink3URL: http://www.national.com/packaging/folders/sda10a.html
footprint SDA10A (SON, 10-Leads, Body 3x3 mm, Pitch 0.5mm, NSC Recommended)
pins: 1 IN (power), 2 EN1 (in), 3 EN2 (in), 4 CBYP, 5 NC, 6 GND (power), 7 NC, 8 NC, 9 OUT2 (power), 10 OUT1 (power), 11 DAP (power)

## LP5996SD-2828
designator U?
Dual Linear Regulator with 300mA and 150mA Outputs, 10-pin LLP; PartNumber: LP5996SD-2828; Manufacturer: National Semiconductor; PackageTopMarking: ZXYTT*L180B; PowerWise: N; CompType: LDO IC; Published: 4-Dec-2008; DatasheetVersion: Jan-2008; PackageVersion: revA, Oct-2003; PackageReference: SDA10A; Publisher: Altium Limited; PackageDescription: LLP, Plastic, Dual, 3 x 3 x 0.8mm Body, 10 Lead, 0.5mm Pitch, No Pullback; Supplier 1: Farnell; Supplier Part Number 1: 1312661; RoHS: N; PinCount: 10; ComponentLink1Description: LP5996 Datasheet; ComponentLink1URL: http://www.national.com/ds/LP/LP5996.pdf; ComponentLink2Description: LP5996 Web Page; ComponentLink2URL: http://www.national.com/pf/LP/LP5996.html; ComponentLink3Description: SDA10A Package Page; ComponentLink3URL: http://www.national.com/packaging/folders/sda10a.html
footprint SDA10A (SON, 10-Leads, Body 3x3 mm, Pitch 0.5mm, NSC Recommended)
pins: 1 IN (power), 2 EN1 (in), 3 EN2 (in), 4 CBYP, 5 NC, 6 GND (power), 7 NC, 8 NC, 9 OUT2 (power), 10 OUT1 (power), 11 DAP (power)

## LP5996SD-2828/NOPB
designator U?
Dual Linear Regulator with 300mA and 150mA Outputs, 10-pin LLP, Pb-Free; PartNumber: LP5996SD-2828/NOPB; Manufacturer: National Semiconductor; PackageTopMarking: ZXYTT*L180B; PowerWise: N; CompType: LDO IC; Published: 1-Mar-2010; DatasheetVersion: Jan-2008; PackageVersion: revA, Oct-2003; PackageReference: SDA10A; Publisher: Altium Limited; PackageDescription: LLP, Plastic, Dual, 3 x 3 x 0.8mm Body, 10 Lead, 0.5mm Pitch, No Pullback; Supplier 1: Digi-Key; Supplier Part Number 1: LP5996SD-2828TR-ND; Supplier 2: Digi-Key; Supplier Part Number 2: LP5996SD-2828CT-ND; RoHS: Y; PinCount: 10; ComponentLink1Description: LP5996 Datasheet; ComponentLink1URL: http://www.national.com/ds/LP/LP5996.pdf; ComponentLink2Description: LP5996 Web Page; ComponentLink2URL: http://www.national.com/pf/LP/LP5996.html; ComponentLink3Description: SDA10A Package Page; ComponentLink3URL: http://www.national.com/packaging/folders/sda10a.html
footprint SDA10A (SON, 10-Leads, Body 3x3 mm, Pitch 0.5mm, NSC Recommended)
pins: 1 IN (power), 2 EN1 (in), 3 EN2 (in), 4 CBYP, 5 NC, 6 GND (power), 7 NC, 8 NC, 9 OUT2 (power), 10 OUT1 (power), 11 DAP (power)

## LP5996SD-3030
designator U?
Dual Linear Regulator with 300mA and 150mA Outputs, 10-pin LLP; PartNumber: LP5996SD-3030; Manufacturer: National Semiconductor; PackageTopMarking: ZXYTT*L181B; PowerWise: N; CompType: LDO IC; Published: 4-Dec-2008; DatasheetVersion: Jan-2008; PackageVersion: revA, Oct-2003; PackageReference: SDA10A; Publisher: Altium Limited; PackageDescription: LLP, Plastic, Dual, 3 x 3 x 0.8mm Body, 10 Lead, 0.5mm Pitch, No Pullback; Supplier 1: Farnell; Supplier Part Number 1: 1312663; RoHS: N; PinCount: 10; ComponentLink1Description: LP5996 Datasheet; ComponentLink1URL: http://www.national.com/ds/LP/LP5996.pdf; ComponentLink2Description: LP5996 Web Page; ComponentLink2URL: http://www.national.com/pf/LP/LP5996.html; ComponentLink3Description: SDA10A Package Page; ComponentLink3URL: http://www.national.com/packaging/folders/sda10a.html
footprint SDA10A (SON, 10-Leads, Body 3x3 mm, Pitch 0.5mm, NSC Recommended)
pins: 1 IN (power), 2 EN1 (in), 3 EN2 (in), 4 CBYP, 5 NC, 6 GND (power), 7 NC, 8 NC, 9 OUT2 (power), 10 OUT1 (power), 11 DAP (power)

## LP5996SD-3030/NOPB
designator U?
Dual Linear Regulator with 300mA and 150mA Outputs, 10-pin LLP, Pb-Free; PartNumber: LP5996SD-3030/NOPB; Manufacturer: National Semiconductor; PackageTopMarking: ZXYTT*L181B; PowerWise: N; CompType: LDO IC; Published: 1-Mar-2010; DatasheetVersion: Jan-2008; PackageVersion: revA, Oct-2003; PackageReference: SDA10A; Publisher: Altium Limited; PackageDescription: LLP, Plastic, Dual, 3 x 3 x 0.8mm Body, 10 Lead, 0.5mm Pitch, No Pullback; Supplier 1: Digi-Key; Supplier Part Number 1: LP5996SD-3030TR-ND; Supplier 2: Digi-Key; Supplier Part Number 2: LP5996SD-3030CT-ND; RoHS: Y; PinCount: 10; ComponentLink1Description: LP5996 Datasheet; ComponentLink1URL: http://www.national.com/ds/LP/LP5996.pdf; ComponentLink2Description: LP5996 Web Page; ComponentLink2URL: http://www.national.com/pf/LP/LP5996.html; ComponentLink3Description: SDA10A Package Page; ComponentLink3URL: http://www.national.com/packaging/folders/sda10a.html
footprint SDA10A (SON, 10-Leads, Body 3x3 mm, Pitch 0.5mm, NSC Recommended)
pins: 1 IN (power), 2 EN1 (in), 3 EN2 (in), 4 CBYP, 5 NC, 6 GND (power), 7 NC, 8 NC, 9 OUT2 (power), 10 OUT1 (power), 11 DAP (power)

## LP5996SD-3033
designator U?
Dual Linear Regulator with 300mA and 150mA Outputs, 10-pin LLP; PartNumber: LP5996SD-3033; Manufacturer: National Semiconductor; PackageTopMarking: ZXYTT*L179B; PowerWise: N; CompType: LDO IC; Published: 4-Dec-2008; DatasheetVersion: Jan-2008; PackageVersion: revA, Oct-2003; PackageReference: SDA10A; Publisher: Altium Limited; PackageDescription: LLP, Plastic, Dual, 3 x 3 x 0.8mm Body, 10 Lead, 0.5mm Pitch, No Pullback; Supplier 1: Farnell; Supplier Part Number 1: 1312664; RoHS: N; PinCount: 10; ComponentLink1Description: LP5996 Datasheet; ComponentLink1URL: http://www.national.com/ds/LP/LP5996.pdf; ComponentLink2Description: LP5996 Web Page; ComponentLink2URL: http://www.national.com/pf/LP/LP5996.html; ComponentLink3Description: SDA10A Package Page; ComponentLink3URL: http://www.national.com/packaging/folders/sda10a.html
footprint SDA10A (SON, 10-Leads, Body 3x3 mm, Pitch 0.5mm, NSC Recommended)
pins: 1 IN (power), 2 EN1 (in), 3 EN2 (in), 4 CBYP, 5 NC, 6 GND (power), 7 NC, 8 NC, 9 OUT2 (power), 10 OUT1 (power), 11 DAP (power)

## LP5996SD-3033/NOPB
designator U?
Dual Linear Regulator with 300mA and 150mA Outputs, 10-pin LLP, Pb-Free; PartNumber: LP5996SD-3033/NOPB; Manufacturer: National Semiconductor; PackageTopMarking: ZXYTT*L179B; PowerWise: N; CompType: LDO IC; Published: 1-Mar-2010; DatasheetVersion: Jan-2008; PackageVersion: revA, Oct-2003; PackageReference: SDA10A; Publisher: Altium Limited; PackageDescription: LLP, Plastic, Dual, 3 x 3 x 0.8mm Body, 10 Lead, 0.5mm Pitch, No Pullback; Supplier 1: Digi-Key; Supplier Part Number 1: LP5996SD-3033TR-ND; Supplier 2: Digi-Key; Supplier Part Number 2: LP5996SD-3033CT-ND; RoHS: Y; PinCount: 10; ComponentLink1Description: LP5996 Datasheet; ComponentLink1URL: http://www.national.com/ds/LP/LP5996.pdf; ComponentLink2Description: LP5996 Web Page; ComponentLink2URL: http://www.national.com/pf/LP/LP5996.html; ComponentLink3Description: SDA10A Package Page; ComponentLink3URL: http://www.national.com/packaging/folders/sda10a.html
footprint SDA10A (SON, 10-Leads, Body 3x3 mm, Pitch 0.5mm, NSC Recommended)
pins: 1 IN (power), 2 EN1 (in), 3 EN2 (in), 4 CBYP, 5 NC, 6 GND (power), 7 NC, 8 NC, 9 OUT2 (power), 10 OUT1 (power), 11 DAP (power)

## LP5996SD-3308
designator U?
Dual Linear Regulator with 300mA and 150mA Outputs, 10-pin LLP; PartNumber: LP5996SD-3308; Manufacturer: National Semiconductor; PackageTopMarking: ZXYTT*L205B; PowerWise: N; CompType: LDO IC; Published: 4-Dec-2008; DatasheetVersion: Jan-2008; PackageVersion: revA, Oct-2003; PackageReference: SDA10A; Publisher: Altium Limited; PackageDescription: LLP, Plastic, Dual, 3 x 3 x 0.8mm Body, 10 Lead, 0.5mm Pitch, No Pullback; Supplier 1: Farnell; Supplier Part Number 1: 1312665; RoHS: N; PinCount: 10; ComponentLink1Description: LP5996 Datasheet; ComponentLink1URL: http://www.national.com/ds/LP/LP5996.pdf; ComponentLink2Description: LP5996 Web Page; ComponentLink2URL: http://www.national.com/pf/LP/LP5996.html; ComponentLink3Description: SDA10A Package Page; ComponentLink3URL: http://www.national.com/packaging/folders/sda10a.html
footprint SDA10A (SON, 10-Leads, Body 3x3 mm, Pitch 0.5mm, NSC Recommended)
pins: 1 IN (power), 2 EN1 (in), 3 EN2 (in), 4 CBYP, 5 NC, 6 GND (power), 7 NC, 8 NC, 9 OUT2 (power), 10 OUT1 (power), 11 DAP (power)

## LP5996SD-3308/NOPB
designator U?
Dual Linear Regulator with 300mA and 150mA Outputs, 10-pin LLP, Pb-Free; PartNumber: LP5996SD-3308/NOPB; Manufacturer: National Semiconductor; PackageTopMarking: ZXYTT*L205B; PowerWise: N; CompType: LDO IC; Published: 1-Mar-2010; DatasheetVersion: Jan-2008; PackageVersion: revA, Oct-2003; PackageReference: SDA10A; Publisher: Altium Limited; PackageDescription: LLP, Plastic, Dual, 3 x 3 x 0.8mm Body, 10 Lead, 0.5mm Pitch, No Pullback; Supplier 1: Digi-Key; Supplier Part Number 1: LP5996SD-3308TR-ND; Supplier 2: Digi-Key; Supplier Part Number 2: LP5996SD-3308CT-ND; RoHS: Y; PinCount: 10; ComponentLink1Description: LP5996 Datasheet; ComponentLink1URL: http://www.national.com/ds/LP/LP5996.pdf; ComponentLink2Description: LP5996 Web Page; ComponentLink2URL: http://www.national.com/pf/LP/LP5996.html; ComponentLink3Description: SDA10A Package Page; ComponentLink3URL: http://www.national.com/packaging/folders/sda10a.html
footprint SDA10A (SON, 10-Leads, Body 3x3 mm, Pitch 0.5mm, NSC Recommended)
pins: 1 IN (power), 2 EN1 (in), 3 EN2 (in), 4 CBYP, 5 NC, 6 GND (power), 7 NC, 8 NC, 9 OUT2 (power), 10 OUT1 (power), 11 DAP (power)

## LP5996SD-3333
designator U?
Dual Linear Regulator with 300mA and 150mA Outputs, 10-pin LLP; PartNumber: LP5996SD-3333; Manufacturer: National Semiconductor; PackageTopMarking: ZXYTT*L182B; PowerWise: N; CompType: LDO IC; Published: 4-Dec-2008; DatasheetVersion: Jan-2008; PackageVersion: revA, Oct-2003; PackageReference: SDA10A; Publisher: Altium Limited; PackageDescription: LLP, Plastic, Dual, 3 x 3 x 0.8mm Body, 10 Lead, 0.5mm Pitch, No Pullback; Supplier 1: Farnell; Supplier Part Number 1: 1312666; RoHS: N; PinCount: 10; ComponentLink1Description: LP5996 Datasheet; ComponentLink1URL: http://www.national.com/ds/LP/LP5996.pdf; ComponentLink2Description: LP5996 Web Page; ComponentLink2URL: http://www.national.com/pf/LP/LP5996.html; ComponentLink3Description: SDA10A Package Page; ComponentLink3URL: http://www.national.com/packaging/folders/sda10a.html
footprint SDA10A (SON, 10-Leads, Body 3x3 mm, Pitch 0.5mm, NSC Recommended)
pins: 1 IN (power), 2 EN1 (in), 3 EN2 (in), 4 CBYP, 5 NC, 6 GND (power), 7 NC, 8 NC, 9 OUT2 (power), 10 OUT1 (power), 11 DAP (power)

## LP5996SD-3333/NOPB
designator U?
Dual Linear Regulator with 300mA and 150mA Outputs, 10-pin LLP, Pb-Free; PartNumber: LP5996SD-3333/NOPB; Manufacturer: National Semiconductor; PackageTopMarking: ZXYTT*L182B; PowerWise: N; CompType: LDO IC; Published: 1-Mar-2010; DatasheetVersion: Jan-2008; PackageVersion: revA, Oct-2003; PackageReference: SDA10A; Publisher: Altium Limited; PackageDescription: LLP, Plastic, Dual, 3 x 3 x 0.8mm Body, 10 Lead, 0.5mm Pitch, No Pullback; Supplier 1: Digi-Key; Supplier Part Number 1: LP5996SD-3333TR-ND; Supplier 2: Digi-Key; Supplier Part Number 2: LP5996SD-3333CT-ND; Supplier 3: Digi-Key; Supplier Part Number 3: LP5996SD-3333DKR-ND; RoHS: Y; PinCount: 10; ComponentLink1Description: LP5996 Datasheet; ComponentLink1URL: http://www.national.com/ds/LP/LP5996.pdf; ComponentLink2Description: LP5996 Web Page; ComponentLink2URL: http://www.national.com/pf/LP/LP5996.html; ComponentLink3Description: SDA10A Package Page; ComponentLink3URL: http://www.national.com/packaging/folders/sda10a.html
footprint SDA10A (SON, 10-Leads, Body 3x3 mm, Pitch 0.5mm, NSC Recommended)
pins: 1 IN (power), 2 EN1 (in), 3 EN2 (in), 4 CBYP, 5 NC, 6 GND (power), 7 NC, 8 NC, 9 OUT2 (power), 10 OUT1 (power), 11 DAP (power)

## LP5996SDX-0833
designator U?
Dual Linear Regulator with 300mA and 150mA Outputs, 10-pin LLP; PartNumber: LP5996SDX-0833; Manufacturer: National Semiconductor; PackageTopMarking: ZXYTT*L176B; PowerWise: N; CompType: LDO IC; Published: 1-Mar-2010; DatasheetVersion: Jan-2008; PackageVersion: revA, Oct-2003; PackageReference: SDA10A; Publisher: Altium Limited; PackageDescription: LLP, Plastic, Dual, 3 x 3 x 0.8mm Body, 10 Lead, 0.5mm Pitch, No Pullback; RoHS: N; PinCount: 10; ComponentLink1Description: LP5996 Datasheet; ComponentLink1URL: http://www.national.com/ds/LP/LP5996.pdf; ComponentLink2Description: LP5996 Web Page; ComponentLink2URL: http://www.national.com/pf/LP/LP5996.html; ComponentLink3Description: SDA10A Package Page; ComponentLink3URL: http://www.national.com/packaging/folders/sda10a.html
footprint SDA10A (SON, 10-Leads, Body 3x3 mm, Pitch 0.5mm, NSC Recommended)
pins: 1 IN (power), 2 EN1 (in), 3 EN2 (in), 4 CBYP, 5 NC, 6 GND (power), 7 NC, 8 NC, 9 OUT2 (power), 10 OUT1 (power), 11 DAP (power)

## LP5996SDX-0833/NOPB
designator U?
Dual Linear Regulator with 300mA and 150mA Outputs, 10-pin LLP, Pb-Free; PartNumber: LP5996SDX-0833/NOPB; Manufacturer: National Semiconductor; PackageTopMarking: ZXYTT*L176B; PowerWise: N; CompType: LDO IC; Published: 1-Mar-2010; DatasheetVersion: Jan-2008; PackageVersion: revA, Oct-2003; PackageReference: SDA10A; Publisher: Altium Limited; PackageDescription: LLP, Plastic, Dual, 3 x 3 x 0.8mm Body, 10 Lead, 0.5mm Pitch, No Pullback; Supplier 1: Digi-Key; Supplier Part Number 1: LP5996SDX-0833-ND; RoHS: Y; PinCount: 10; ComponentLink1Description: LP5996 Datasheet; ComponentLink1URL: http://www.national.com/ds/LP/LP5996.pdf; ComponentLink2Description: LP5996 Web Page; ComponentLink2URL: http://www.national.com/pf/LP/LP5996.html; ComponentLink3Description: SDA10A Package Page; ComponentLink3URL: http://www.national.com/packaging/folders/sda10a.html
footprint SDA10A (SON, 10-Leads, Body 3x3 mm, Pitch 0.5mm, NSC Recommended)
pins: 1 IN (power), 2 EN1 (in), 3 EN2 (in), 4 CBYP, 5 NC, 6 GND (power), 7 NC, 8 NC, 9 OUT2 (power), 10 OUT1 (power), 11 DAP (power)

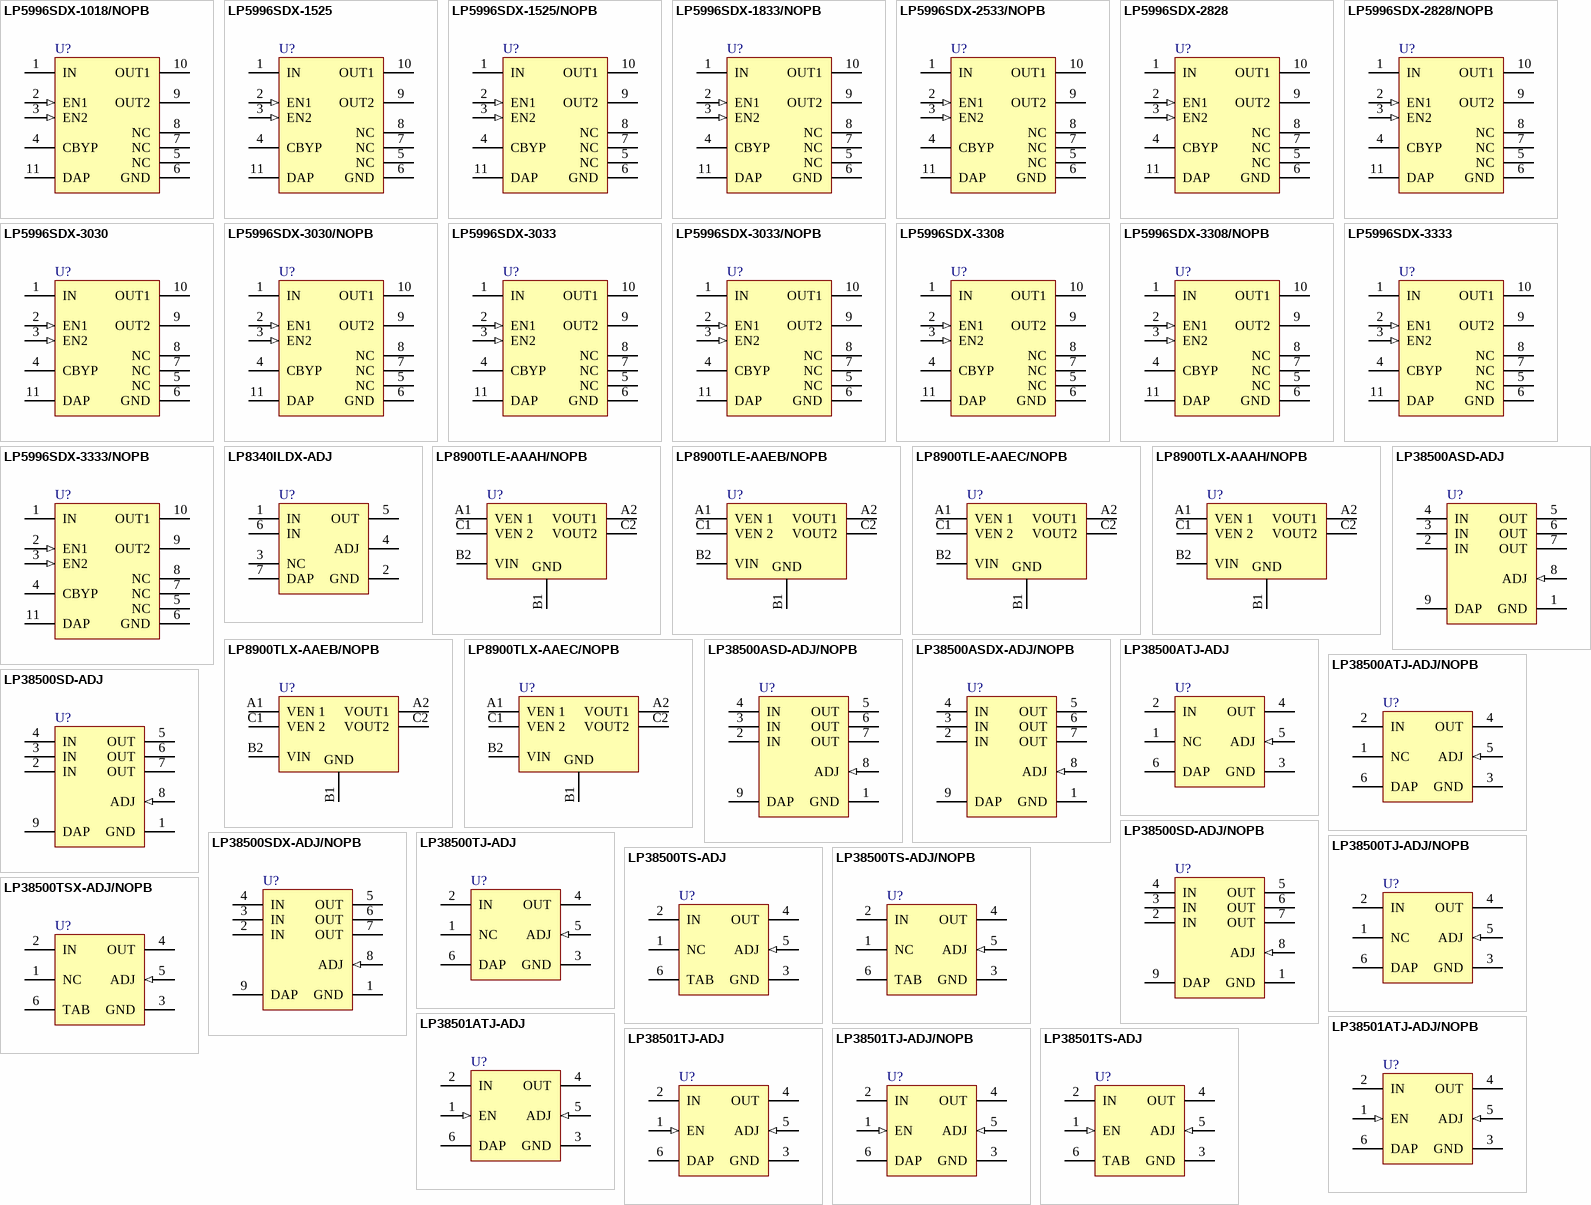
[diagram p57: symbols LP5996SDX-1018/NOPB to LP38501TS-ADJ]

## LP5996SDX-1018/NOPB
designator U?
Dual Linear Regulator with 300mA and 150mA Outputs, 10-pin LLP, Pb-Free; PartNumber: LP5996SDX-1018/NOPB; Manufacturer: National Semiconductor; PackageTopMarking: ZXYTT*L224B; PowerWise: N; CompType: LDO IC; Published: 1-Mar-2010; DatasheetVersion: Jan-2008; PackageVersion: revA, Oct-2003; PackageReference: SDA10A; Publisher: Altium Limited; PackageDescription: LLP, Plastic, Dual, 3 x 3 x 0.8mm Body, 10 Lead, 0.5mm Pitch, No Pullback; Supplier 1: Digi-Key; Supplier Part Number 1: LP5996SDX-1018-ND; RoHS: Y; PinCount: 10; ComponentLink1Description: LP5996 Datasheet; ComponentLink1URL: http://www.national.com/ds/LP/LP5996.pdf; ComponentLink2Description: LP5996 Web Page; ComponentLink2URL: http://www.national.com/pf/LP/LP5996.html; ComponentLink3Description: SDA10A Package Page; ComponentLink3URL: http://www.national.com/packaging/folders/sda10a.html
footprint SDA10A (SON, 10-Leads, Body 3x3 mm, Pitch 0.5mm, NSC Recommended)
pins: 1 IN (power), 2 EN1 (in), 3 EN2 (in), 4 CBYP, 5 NC, 6 GND (power), 7 NC, 8 NC, 9 OUT2 (power), 10 OUT1 (power), 11 DAP (power)

## LP5996SDX-1525
designator U?
Dual Linear Regulator with 300mA and 150mA Outputs, 10-pin LLP; PartNumber: LP5996SDX-1525; Manufacturer: National Semiconductor; PackageTopMarking: ZXYTT*L177B; PowerWise: N; CompType: LDO IC; Published: 1-Mar-2010; DatasheetVersion: Jan-2008; PackageVersion: revA, Oct-2003; PackageReference: SDA10A; Publisher: Altium Limited; PackageDescription: LLP, Plastic, Dual, 3 x 3 x 0.8mm Body, 10 Lead, 0.5mm Pitch, No Pullback; RoHS: N; PinCount: 10; ComponentLink1Description: LP5996 Datasheet; ComponentLink1URL: http://www.national.com/ds/LP/LP5996.pdf; ComponentLink2Description: LP5996 Web Page; ComponentLink2URL: http://www.national.com/pf/LP/LP5996.html; ComponentLink3Description: SDA10A Package Page; ComponentLink3URL: http://www.national.com/packaging/folders/sda10a.html
footprint SDA10A (SON, 10-Leads, Body 3x3 mm, Pitch 0.5mm, NSC Recommended)
pins: 1 IN (power), 2 EN1 (in), 3 EN2 (in), 4 CBYP, 5 NC, 6 GND (power), 7 NC, 8 NC, 9 OUT2 (power), 10 OUT1 (power), 11 DAP (power)

## LP5996SDX-1525/NOPB
designator U?
Dual Linear Regulator with 300mA and 150mA Outputs, 10-pin LLP, Pb-Free; PartNumber: LP5996SDX-1525/NOPB; Manufacturer: National Semiconductor; PackageTopMarking: ZXYTT*L177B; PowerWise: N; CompType: LDO IC; Published: 1-Mar-2010; DatasheetVersion: Jan-2008; PackageVersion: revA, Oct-2003; PackageReference: SDA10A; Publisher: Altium Limited; PackageDescription: LLP, Plastic, Dual, 3 x 3 x 0.8mm Body, 10 Lead, 0.5mm Pitch, No Pullback; Supplier 1: Digi-Key; Supplier Part Number 1: LP5996SDX-1525-ND; RoHS: Y; PinCount: 10; ComponentLink1Description: LP5996 Datasheet; ComponentLink1URL: http://www.national.com/ds/LP/LP5996.pdf; ComponentLink2Description: LP5996 Web Page; ComponentLink2URL: http://www.national.com/pf/LP/LP5996.html; ComponentLink3Description: SDA10A Package Page; ComponentLink3URL: http://www.national.com/packaging/folders/sda10a.html
footprint SDA10A (SON, 10-Leads, Body 3x3 mm, Pitch 0.5mm, NSC Recommended)
pins: 1 IN (power), 2 EN1 (in), 3 EN2 (in), 4 CBYP, 5 NC, 6 GND (power), 7 NC, 8 NC, 9 OUT2 (power), 10 OUT1 (power), 11 DAP (power)

## LP5996SDX-1833/NOPB
designator U?
Dual Linear Regulator with 300mA and 150mA Outputs, 10-pin LLP, Pb-Free; PartNumber: LP5996SDX-1833/NOPB; Manufacturer: National Semiconductor; PackageTopMarking: ZXYTT*L225B; PowerWise: N; CompType: LDO IC; Published: 1-Mar-2010; DatasheetVersion: Jan-2008; PackageVersion: revA, Oct-2003; PackageReference: SDA10A; Publisher: Altium Limited; PackageDescription: LLP, Plastic, Dual, 3 x 3 x 0.8mm Body, 10 Lead, 0.5mm Pitch, No Pullback; Supplier 1: Digi-Key; Supplier Part Number 1: LP5996SDX-1833-ND; RoHS: Y; PinCount: 10; ComponentLink1Description: LP5996 Datasheet; ComponentLink1URL: http://www.national.com/ds/LP/LP5996.pdf; ComponentLink2Description: LP5996 Web Page; ComponentLink2URL: http://www.national.com/pf/LP/LP5996.html; ComponentLink3Description: SDA10A Package Page; ComponentLink3URL: http://www.national.com/packaging/folders/sda10a.html
footprint SDA10A (SON, 10-Leads, Body 3x3 mm, Pitch 0.5mm, NSC Recommended)
pins: 1 IN (power), 2 EN1 (in), 3 EN2 (in), 4 CBYP, 5 NC, 6 GND (power), 7 NC, 8 NC, 9 OUT2 (power), 10 OUT1 (power), 11 DAP (power)